# EAGLE library part 691312410008 (library Wurth_Elektronik_Electromechanic_Terminal_Blocks_Connectors_rev16b)
WR-TBL Serie 3124 - 7.62 mm Open Horizontal PCB Header , 8 Pins=>Code : Con_TBL_Pluggable_7.62_PCB_H_691312410008 <http://katalog.we-online.de/media/images/eican/Con_TBL_Pluggable_7.62_PCB_H_6913124100xx_pf2.jpg> Details see: http://katalog.we-online.de/en/em/691_312_410_0xx Created 2014-06-25, Karrer Zheng 2014 (C) Würth Elektronik
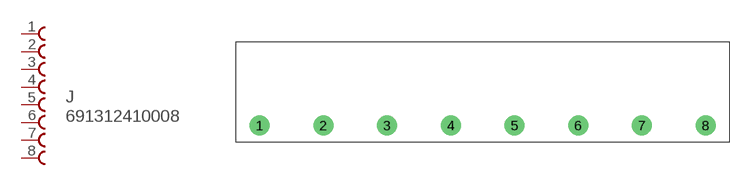
[diagram p182: symbol with the pads of 691312410008; footprint 691312410008]

Designator prefix J

## 691312410008  [691312410008]
1  1  pas
2  2  pas
3  3  pas
4  4  pas
5  5  pas
6  6  pas
7  7  pas
8  8  pas

## Footprint 691312410008 (pad centres in mm)
WR-TBL Serie 3124 - 7.62 mm Open Horizontal PCB Header , 8 Pins
drill 1.6: 1 -15.24,0; 2 -7.62,0; 3 0,0; 4 7.62,0; 5 15.24,0; 6 22.86,0; 7 30.48,0; 8 38.1,0